# Altium schematic symbol library Schlib1.SchLib: 6 symbols
Pins are listed as number, name and electrical type; pins without a type are passive.

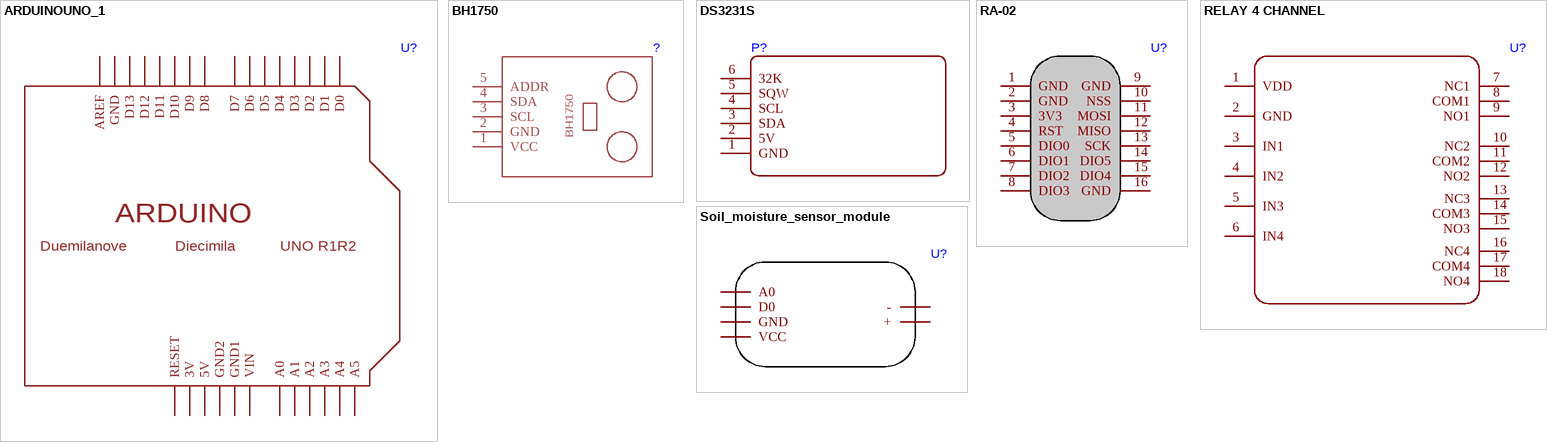
[diagram p0: symbols ARDUINOUNO_1 to Soil_moisture_sensor_module]

## ARDUINOUNO_1
designator U?
footprint ARDUINO
footprint UNO R3
pins: 1 D8, 2 D9, 3 D10, 4 D11, 5 D12, 6 D13, 7 GND, 8 AREF, 11 D0, 12 D1, 13 D2, 14 D3, 15 D4, 16 D5, 17 D6, 18 D7, 19 A0, 20 A1, 21 A2, 22 A3, 23 A4, 24 A5, 27 RESET, 28 3V, 29 5V, 30 GND2, 31 GND1, 32 VIN
text: ARDUINO; Duemilanove; Diecimila; UNO R1R2

## BH1750
designator ?
footprint LIGHT-SENSOR-BH1750
footprint LIGHT-SENSOR-BH1750
pins: 1 VCC, 2 GND, 3 SCL, 4 SDA, 5 ADDR

## DS3231S
designator P?
footprint DS3231S
footprint DS3231S - duplicate
pins: 1 GND, 2 5V, 3 SDA, 4 SCL, 5 SQW, 6 32K

## RA-02
designator U?
footprint RA-02_MODULE
footprint LORA RA 02
pins: 1 GND, 2 GND, 3 3V3, 4 RST, 5 DIO0, 6 DIO1, 7 DIO2, 8 DIO3, 9 GND, 10 NSS, 11 MOSI, 12 MISO, 13 SCK, 14 DIO5, 15 DIO4, 16 GND

## RELAY 4 CHANNEL
designator U?
footprint 4CHANNELRELAYMODULE
footprint RELAY 4 CHANNEL
pins: 1 VDD, 2 GND, 3 IN1, 4 IN2, 5 IN3, 6 IN4, 7 NC1, 8 COM1, 9 NO1, 10 NC2, 11 COM2, 12 NO2, 13 NC3, 14 COM3, 15 NO3, 16 NC4, 17 COM4, 18 NO4

## Soil_moisture_sensor_module
designator U?
footprint Soil
pins: 2 +, 3 VCC, 4 GND, 5 D0, 6 A0, GND -